# Altium integrated library TLC2272QDR-SOIC8.IntLib: 1 symbol
Pins are listed as number, name and electrical type; pins without a type are passive.

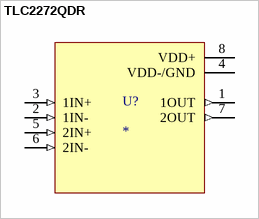
[diagram p0: symbol TLC2272QDR]

## TLC2272QDR
designator U?
Dual, Low-Noise, Rail-To-Rail Operational Amplifier 8-SOIC -40 to 125; MF: Texas Instruments; MP: TLC2272QDR; SnapEDA_Link: https://www.snapeda.com/parts/TLC2272QDR/Texas+Instruments/view-part/?ref=snap; Package: SOIC-8 Texas Instruments; Value: *; Check_prices: https://www.snapeda.com/parts/TLC2272QDR/Texas+Instruments/view-part/?ref=eda
footprint SOIC127P599X175-8N
pins: 1 1OUT (out), 2 1IN- (in), 3 1IN+ (in), 4 VDD-/GND (power), 5 2IN+ (in), 6 2IN- (in), 7 2OUT (out), 8 VDD+ (power)